# EAGLE library part MCP4542 (library microchip)
Single I2C Rheostat
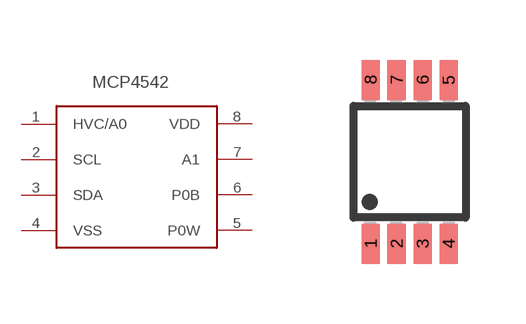
[diagram p144: symbol with the pads of MSOP8; footprint MSOP8]

Designator prefix -

## MCP4542  [MSOP8]
1  HVC/A0  in
2  SCL
3  SDA
4  VSS
5  P0W
6  P0B
7  A1
8  VDD

## Footprint MSOP8 (pad centres in mm)
Micro Small Outline Package Grid 0.65mm Source: http://ww1.microchip.com/downloads/en/DeviceDoc/21796H.pdf
smd 0.45 x 1: 1 -0.975,-2.05; 2 -0.325,-2.05; 3 0.325,-2.05; 4 0.975,-2.05; 5 0.975,2.05; 6 0.325,2.05; 7 -0.325,2.05; 8 -0.975,2.05